# Altium schematic symbol library PRTR5V0U2X,215.SchLib: 1 symbol
Pins are listed as number, name and electrical type; pins without a type are passive.

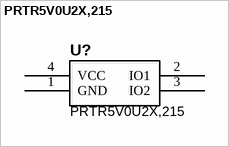
[diagram p0: symbol PRTR5V0U2X,215]

## PRTR5V0U2X,215
designator U?
6V Unidirectional 5.5V SOT-143 ESD and Surge Protection (TVS/ESD) ROHS; Manufacturer: Nexperia; Manufacturer Part Number: PRTR5V0U2X,215; JLCPCB Part #: C12333; Value: PRTR5V0U2X,215
footprint SOT143B
pins: 1 GND, 2 IO1, 3 IO2, 4 VCC
1 alternate drawing of the same symbol